# EAGLE library part ETHERNET_DEV (library blizzard_board)
Ethernet Jack
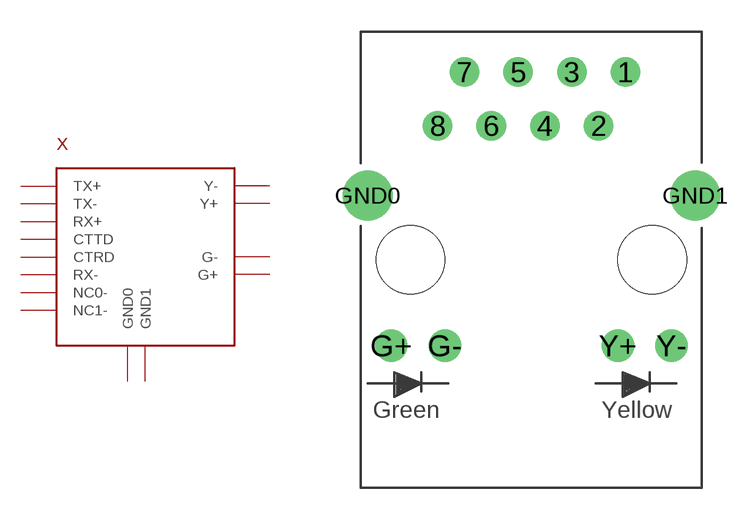
[diagram p4: symbol with the pads of ETHERNET_PKG; footprint ETHERNET_PKG]

Designator prefix X

## ETHERNET_DEV  [ETHERNET_PKG]
1  TX+
2  TX-
3  RX+
4  CTTD
5  CTRD
6  RX-
7  NC0-
8  NC1-
G+  G+
G-  G-
GND0  GND0
GND1  GND1
Y+  Y+
Y-  Y-

## Footprint ETHERNET_PKG (pad centres in mm)
Ethernet Jack
drill 0.89: 1 12.195,5.84; 2 10.925,3.3; 3 9.655,5.84; 4 8.385,3.3; 5 7.115,5.84; 6 5.845,3.3; 7 4.575,5.84; 8 3.305,3.3
drill 1.02: G+ 1.115,-7.11; G- 3.655,-7.11; Y+ 11.835,-7.11; Y- 14.375,-7.11
drill 1.57: GND0 0,0; GND1 15.49,0
hole 3.25 at 2.03,-3.05
hole 3.25 at 13.46,-3.05